# Altium footprint library MIC5504-3P3YM5-TR.PcbLib: 3 footprints
Each footprint in its own frame and in the unit in brackets; x right, y up, seen from the top. Pads: shape width x height; smd on the part's side, far side on the other; paste and mask are expansions set on the pad; w line width, h text height; cw(c..) or ccw(c..) is an arc to the next point about the centre after c.
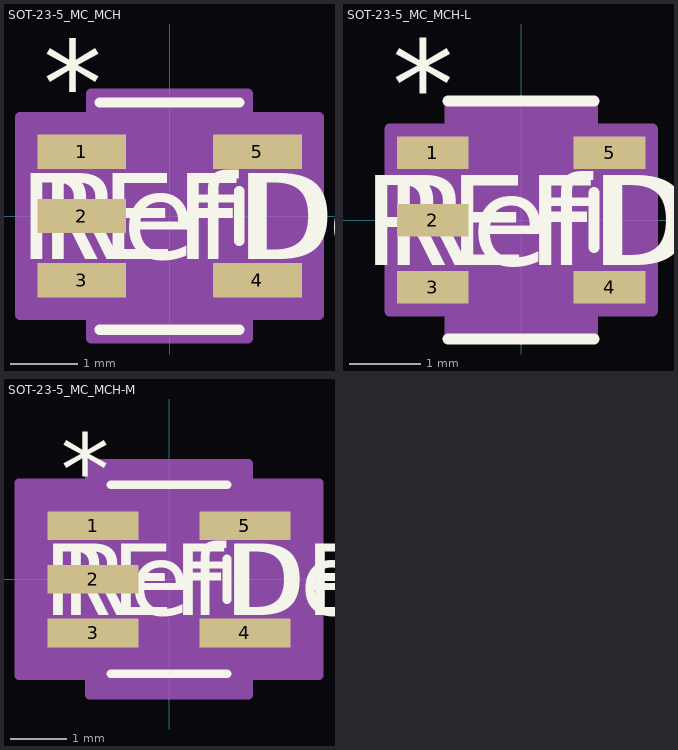
[diagram p0: the footprints below, top view; thin cyan lines are the x and y axes]

## SOT-23-5_MC_MCH [mil]
pads (5):
  rect 51.56x20 smd paste+0 mask+0: 1(-51,37.4) 2(-51,0) 3(-51,-37.4) 4(51,-37.4) 5(51,37.4)
Top Overlay:
  lines w6: -40.5,-66 40.5,-66 ; -40.5,66 40.5,66 ; 40.5,-14.3 40.5,14.3
  text "*" at -73.5,52.4 h50
  text "RefDes" at -75,-25 h50
  text "REFDES" at -87.5,-25 h50
Mechanical 13:
  lines w0: -12,61 ccw(c0,61) 12,61
  lines w1: -63,-47.4 -63,-27.4 -35.5,-27.4 -35.5,-47.4 -63,-47.4 ; -63,-10 -63,10 -35.5,10 -35.5,-10 -63,-10 ; -63,27.4 -63,47.4 -35.5,47.4 -35.5,27.4 -63,27.4 ; -35.5,-61 35.5,-61 35.5,61 -35.5,61 -35.5,-61 ; 35.5,-47.4 35.5,-27.4 63,-27.4 63,-47.4 35.5,-47.4 ; 35.5,27.4 35.5,47.4 63,47.4 63,27.4 35.5,27.4
  text "*" at -38,14.4 h50
  text "RefDes2" at -87.5,-25 h50
Mechanical 15:
  region: 45.5,-71 -45.5,-71 -45.5,-57.4 -86.78,-57.4 -86.78,57.4 -45.5,57.4 -45.5,71 45.5,71 45.5,57.4 86.78,57.4 86.78,-57.4 45.5,-57.4
  lines w6: -86.78,-57.4 -45.5,-57.4 -45.5,-71 45.5,-71 45.5,-57.4 86.78,-57.4 86.78,57.4 45.5,57.4 45.5,71 -45.5,71 -45.5,57.4 -86.78,57.4 -86.78,-57.4
3D body "SOT-23-5_MC_MCH.step": height 57.09, standoff 0, extent -62.99,-60.98 62.99,60.98

## SOT-23-5_MC_MCH-L [mm]
pads (5):
  rect 1.01x0.458 smd paste+0 mask+0: 1(-1.245,0.95) 2(-1.245,0) 3(-1.245,-0.95) 4(1.245,-0.95) 5(1.245,0.95)
Top Overlay:
  lines w0.152: -1.029,-1.676 1.029,-1.676 ; -1.029,1.676 1.029,1.676 ; 1.029,-0.388 1.029,0.388
  text "*" at -1.817,1.281 h1.27
  text "RefDes" at -1.905,-0.635 h1.27
  text "REFDES" at -2.222,-0.635 h1.27
Mechanical 13:
  lines w0: -0.305,1.549 ccw(c0,1.549) 0.305,1.549
  lines w0.025: -1.6,-1.204 -1.6,-0.696 -0.902,-0.696 -0.902,-1.204 -1.6,-1.204 ; -1.6,-0.254 -1.6,0.254 -0.902,0.254 -0.902,-0.254 -1.6,-0.254 ; -1.6,0.696 -1.6,1.204 -0.902,1.204 -0.902,0.696 -1.6,0.696 ; -0.902,-1.549 0.902,-1.549 0.902,1.549 -0.902,1.549 -0.902,-1.549 ; 0.902,-1.204 0.902,-0.696 1.6,-0.696 1.6,-1.204 0.902,-1.204 ; 0.902,0.696 0.902,1.204 1.6,1.204 1.6,0.696 0.902,0.696
  text "*" at -0.965,0.316 h1.27
  text "RefDes2" at -2.222,-0.635 h1.27
Mechanical 15:
  region: 1.003,-1.651 -1.003,-1.651 -1.003,-1.281 -1.852,-1.281 -1.852,1.281 -1.003,1.281 -1.003,1.651 1.003,1.651 1.003,1.281 1.852,1.281 1.852,-1.281 1.003,-1.281
  lines w0.152: -1.852,-1.281 -1.003,-1.281 -1.003,-1.651 1.003,-1.651 1.003,-1.281 1.852,-1.281 1.852,1.281 1.003,1.281 1.003,1.651 -1.003,1.651 -1.003,1.281 -1.852,1.281 -1.852,-1.281
3D body "SOT-23-5_MC_MCH.step": height 1.45, standoff 0, extent -1.6,-1.549 1.6,1.549

## SOT-23-5_MC_MCH-M [mil]
pads (5):
  rect 63.37x20 smd paste+0 mask+0: 1(-52.97,37.4) 2(-52.97,0) 3(-52.97,-37.4) 4(52.97,-37.4) 5(52.97,37.4)
Top Overlay:
  lines w6: -40.5,-66 40.5,-66 ; -40.5,66 40.5,66 ; 40.5,-14.3 40.5,14.3
  text "*" at -75.47,52.4 h50
  text "RefDes" at -75,-25 h50
  text "REFDES" at -87.5,-25 h50
Mechanical 13:
  lines w0: -12,61 ccw(c0,61) 12,61
  lines w1: -63,-47.4 -63,-27.4 -35.5,-27.4 -35.5,-47.4 -63,-47.4 ; -63,-10 -63,10 -35.5,10 -35.5,-10 -63,-10 ; -63,27.4 -63,47.4 -35.5,47.4 -35.5,27.4 -63,27.4 ; -35.5,-61 35.5,-61 35.5,61 -35.5,61 -35.5,-61 ; 35.5,-47.4 35.5,-27.4 63,-27.4 63,-47.4 35.5,-47.4 ; 35.5,27.4 35.5,47.4 63,47.4 63,27.4 35.5,27.4
  text "*" at -38,14.4 h50
  text "RefDes2" at -87.5,-25 h50
Mechanical 15:
  region: 55.5,-81 -55.5,-81 -55.5,-67.4 -104.65,-67.4 -104.65,67.4 -55.5,67.4 -55.5,81 55.5,81 55.5,67.4 104.65,67.4 104.65,-67.4 55.5,-67.4
  lines w6: -104.65,-67.4 -55.5,-67.4 -55.5,-81 55.5,-81 55.5,-67.4 104.65,-67.4 104.65,67.4 55.5,67.4 55.5,81 -55.5,81 -55.5,67.4 -104.65,67.4 -104.65,-67.4
3D body "SOT-23-5_MC_MCH.step": height 57.09, standoff 0, extent -62.99,-60.98 62.99,60.98